# EAGLE library part TMS320C5535AZHH10 (library DSPs)
IC DSP FIXED-POINT 144BGA Manufacturer's datasheet <http://www.ti.com/lit/ds/symlink/tms320c5535.pdf>
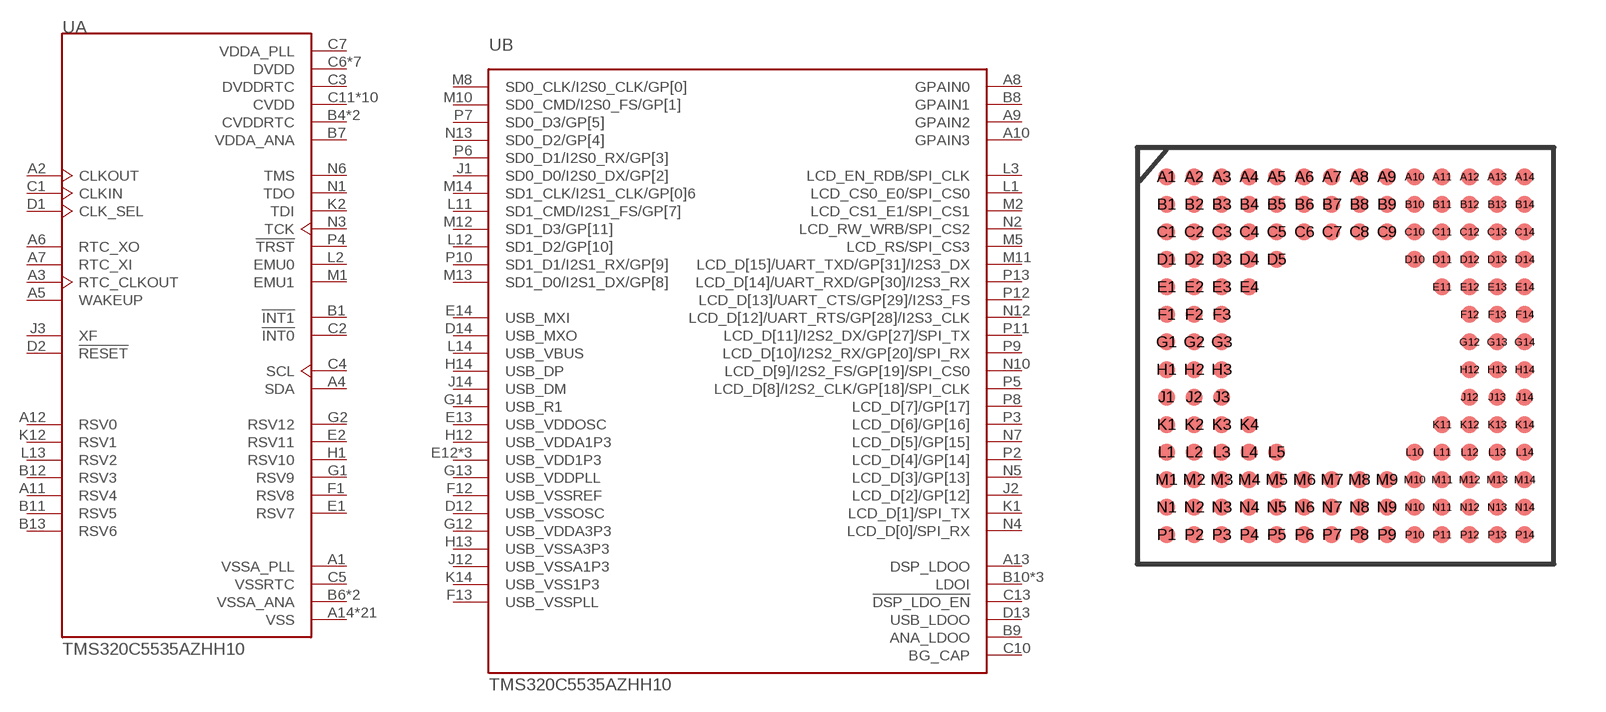
[diagram p13: symbol with the pads of BGA144; footprint BGA144]

Designator prefix U; gates A=TMS320C5535AZHH10-A B=TMS320C5535AZHH10-B

## TMS320C5535AZHH10 (CREATED_BY: PCBLayout.com; DIGIKEY_PARTNO: 296-29560-ND; MANUFACTURER: Texas Instruments; MPN: TMS320C5535AZHH10; PACKAGE: BGA-144)  [BGA144]
A1  A:VSSA_PLL  pwr
A2  A:CLKOUT  out
A3  A:RTC_CLKOUT  out
A4  A:SDA
A5  A:WAKEUP
A6  A:RTC_XO
A7  A:RTC_XI  in
A8  B:GPAIN0
A9  B:GPAIN2
A10  B:GPAIN3
A11  A:RSV4  in
A12  A:RSV0  in
A13  B:DSP_LDOO  pwr
A14  A:VSS  pwr
B1  A:!INT1  in
B2  A:VSS  pwr
B3  A:VSS  pwr
B4  A:CVDDRTC  pwr
B5  A:CVDDRTC  pwr
B6  A:VSSA_ANA  pwr
B7  A:VDDA_ANA  pwr
B8  B:GPAIN1
B9  B:ANA_LDOO  pwr
B10  B:LDOI  pwr
B11  A:RSV5  in
B12  A:RSV3  in
B13  A:RSV6  in
B14  B:LDOI  pwr
C1  A:CLKIN  in
C2  A:!INT0  in
C3  A:DVDDRTC  pwr
C4  A:SCL
C5  A:VSSRTC  pwr
C6  A:DVDD  pwr
C7  A:VDDA_PLL  pwr
C8  A:VSS  pwr
C9  A:VSSA_ANA  pwr
C10  B:BG_CAP
C11  A:CVDD  pwr
C12  A:VSS  pwr
C13  B:!DSP_LDO_EN  in
C14  B:LDOI  pwr
D1  A:CLK_SEL  in
D2  A:!RESET  in
D3  A:CVDD  pwr
D4  A:VSS  pwr
D5  A:VSS  pwr
D10  A:VSS  pwr
D11  A:CVDD  pwr
D12  B:USB_VSSOSC  pwr
D13  B:USB_LDOO  pwr
D14  B:USB_MXO  out
E1  A:RSV7  in
E2  A:RSV11  in
E3  A:VSS  pwr
E4  A:VSS  pwr
E11  A:VSS  pwr
E12  B:USB_VDD1P3  pwr
E13  B:USB_VDDOSC  pwr
E14  B:USB_MXI  in
F1  A:RSV8  in
F2  A:CVDD  pwr
F3  A:VSS  pwr
F12  B:USB_VSSREF  pwr
F13  B:USB_VSSPLL  pwr
F14  B:USB_VDD1P3  pwr
G1  A:RSV9  in
G2  A:RSV12  in
G3  A:CVDD  pwr
G12  B:USB_VDDA3P3  pwr
G13  B:USB_VDDPLL  pwr
G14  B:USB_R1
H1  A:RSV10  in
H2  A:CVDD  pwr
H3  A:VSS  pwr
H12  B:USB_VDDA1P3  pwr
H13  B:USB_VSSA3P3  pwr
H14  B:USB_DP
J1  B:SD0_D0/I2S0_DX/GP[2]
J2  B:LCD_D[2]/GP[12]
J3  A:XF  out
J12  B:USB_VSSA1P3  pwr
J13  A:VSS  pwr
J14  B:USB_DM
K1  B:LCD_D[1]/SPI_TX
K2  A:TDI  in
K3  A:VSS  pwr
K4  A:VSS  pwr
K11  A:CVDD  pwr
K12  A:RSV1  pwr
K13  B:USB_VDD1P3  pwr
K14  B:USB_VSS1P3  pwr
L1  B:LCD_CS0_E0/SPI_CS0
L2  A:EMU0
L3  B:LCD_EN_RDB/SPI_CLK
L4  A:DVDD  pwr
L5  A:VSS  pwr
L10  A:VSS  pwr
L11  B:SD1_CMD/I2S1_FS/GP[7]
L12  B:SD1_D2/GP[10]
L13  A:RSV2  pwr
L14  B:USB_VBUS
M1  A:EMU1
M2  B:LCD_CS1_E1/SPI_CS1
M3  A:DVDD  pwr
M4  A:DVDD  pwr
M5  B:LCD_RS/SPI_CS3
M6  A:CVDD  pwr
M7  A:VSS  pwr
M8  B:SD0_CLK/I2S0_CLK/GP[0]
M9  A:CVDD  pwr
M10  B:SD0_CMD/I2S0_FS/GP[1]
M11  B:LCD_D[15]/UART_TXD/GP[31]/I2S3_DX
M12  B:SD1_D3/GP[11]
M13  B:SD1_D0/I2S1_DX/GP[8]
M14  B:SD1_CLK/I2S1_CLK/GP[0]6
N1  A:TDO  out
N2  B:LCD_RW_WRB/SPI_CS2
N3  A:TCK  in
N4  B:LCD_D[0]/SPI_RX
N5  B:LCD_D[3]/GP[13]
N6  A:TMS  in
N7  B:LCD_D[5]/GP[15]
N8  A:DVDD  pwr
N9  A:CVDD  pwr
N10  B:LCD_D[9]/I2S2_FS/GP[19]/SPI_CS0
N11  A:DVDD  pwr
N12  B:LCD_D[12]/UART_RTS/GP[28]/I2S3_CLK
N13  B:SD0_D2/GP[4]
N14  A:DVDD  pwr
P1  A:VSS  pwr
P2  B:LCD_D[4]/GP[14]
P3  B:LCD_D[6]/GP[16]
P4  A:!TRST  in
P5  B:LCD_D[8]/I2S2_CLK/GP[18]/SPI_CLK
P6  B:SD0_D1/I2S0_RX/GP[3]
P7  B:SD0_D3/GP[5]
P8  B:LCD_D[7]/GP[17]
P9  B:LCD_D[10]/I2S2_RX/GP[20]/SPI_RX
P10  B:SD1_D1/I2S1_RX/GP[9]
P11  B:LCD_D[11]/I2S2_DX/GP[27]/SPI_TX
P12  B:LCD_D[13]/UART_CTS/GP[29]/I2S3_FS
P13  B:LCD_D[14]/UART_RXD/GP[30]/I2S3_RX
P14  A:VSS  pwr

## Footprint BGA144 (pad centres in mm)
smd 0.5 x 0.5: A1 -5.2,5.2; A2 -4.4,5.2; A3 -3.6,5.2; A4 -2.8,5.2; A5 -2,5.2; A6 -1.2,5.2; A7 -0.4,5.2; A8 0.4,5.2; A9 1.2,5.2; A10 2,5.2; A11 2.8,5.2; A12 3.6,5.2; A13 4.4,5.2; A14 5.2,5.2; B1 -5.2,4.4; B2 -4.4,4.4; B3 -3.6,4.4; B4 -2.8,4.4; B5 -2,4.4; B6 -1.2,4.4; B7 -0.4,4.4; B8 0.4,4.4; B9 1.2,4.4; B10 2,4.4; B11 2.8,4.4; B12 3.6,4.4; B13 4.4,4.4; B14 5.2,4.4; C1 -5.2,3.6; C2 -4.4,3.6; C3 -3.6,3.6; C4 -2.8,3.6; C5 -2,3.6; C6 -1.2,3.6; C7 -0.4,3.6; C8 0.4,3.6; C9 1.2,3.6; C10 2,3.6; C11 2.8,3.6; C12 3.6,3.6; C13 4.4,3.6; C14 5.2,3.6; D1 -5.2,2.8; D2 -4.4,2.8; D3 -3.6,2.8; D4 -2.8,2.8; D5 -2,2.8; D10 2,2.8; D11 2.8,2.8; D12 3.6,2.8; D13 4.4,2.8; D14 5.2,2.8; E1 -5.2,2; E2 -4.4,2; E3 -3.6,2; E4 -2.8,2; E11 2.8,2; E12 3.6,2; E13 4.4,2; E14 5.2,2; F1 -5.2,1.2; F2 -4.4,1.2; F3 -3.6,1.2; F12 3.6,1.2; F13 4.4,1.2; F14 5.2,1.2; G1 -5.2,0.4; G2 -4.4,0.4; G3 -3.6,0.4; G12 3.6,0.4; G13 4.4,0.4; G14 5.2,0.4; H1 -5.2,-0.4; H2 -4.4,-0.4; H3 -3.6,-0.4; H12 3.6,-0.4; H13 4.4,-0.4; H14 5.2,-0.4; J1 -5.2,-1.2; J2 -4.4,-1.2; J3 -3.6,-1.2; J12 3.6,-1.2; J13 4.4,-1.2; J14 5.2,-1.2; K1 -5.2,-2; K2 -4.4,-2; K3 -3.6,-2; K4 -2.8,-2; K11 2.8,-2; K12 3.6,-2; K13 4.4,-2; K14 5.2,-2; L1 -5.2,-2.8; L2 -4.4,-2.8; L3 -3.6,-2.8; L4 -2.8,-2.8; L5 -2,-2.8; L10 2,-2.8; L11 2.8,-2.8; L12 3.6,-2.8; L13 4.4,-2.8; L14 5.2,-2.8; M1 -5.2,-3.6; M2 -4.4,-3.6; M3 -3.6,-3.6; M4 -2.8,-3.6; M5 -2,-3.6; M6 -1.2,-3.6; M7 -0.4,-3.6; M8 0.4,-3.6; M9 1.2,-3.6; M10 2,-3.6; M11 2.8,-3.6; M12 3.6,-3.6; M13 4.4,-3.6; M14 5.2,-3.6; N1 -5.2,-4.4; N2 -4.4,-4.4; N3 -3.6,-4.4; N4 -2.8,-4.4; N5 -2,-4.4; N6 -1.2,-4.4; N7 -0.4,-4.4; N8 0.4,-4.4; N9 1.2,-4.4; N10 2,-4.4; N11 2.8,-4.4; N12 3.6,-4.4; N13 4.4,-4.4; N14 5.2,-4.4; P1 -5.2,-5.2; P2 -4.4,-5.2; P3 -3.6,-5.2; P4 -2.8,-5.2; P5 -2,-5.2; P6 -1.2,-5.2; P7 -0.4,-5.2; P8 0.4,-5.2; P9 1.2,-5.2; P10 2,-5.2; P11 2.8,-5.2; P12 3.6,-5.2; P13 4.4,-5.2; P14 5.2,-5.2